# Altium schematic symbol library SCH - LOGIC - TI SN74LVC1G32.SchLib: 1 symbol
Pins are listed as number, name and electrical type; pins without a type are passive.

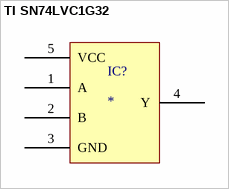
[diagram p0: symbol TI SN74LVC1G32]

## TI SN74LVC1G32
designator IC?
pins: 1 A, 2 B, 3 GND, 4 Y, 5 VCC